# EAGLE library part SLG46828V (library GREENPAK)
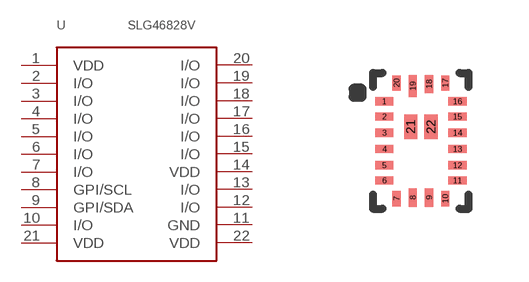
[diagram p62: symbol with the pads of STQFN-20-2.0X3.0-D; footprint STQFN-20-2.0X3.0-D]

Designator prefix -

## SLG46828V  [STQFN-20-2.0X3.0-D]
1  VDD  pwr
2  I/O  in
3  I/O
4  I/O
5  I/O
6  I/O
7  I/O
8  GPI/SCL  in
9  GPI/SDA  in
10  I/O
11  GND  pwr
12  I/O
13  I/O
14  VDD  pwr
15  I/O
16  I/O
17  I/O
18  I/O
19  I/O
20  I/O
21  VDD  out
22  VDD  out

## Footprint STQFN-20-2.0X3.0-D (pad centres in mm)
smd 0.457 x 0.203: 1 -0.917,0.991; 2 -0.917,0.61; 3 -0.917,0.203; 4 -0.917,-0.203; 5 -0.917,-0.61; 6 -0.917,-0.991; 11 0.912,-0.991; 12 0.912,-0.61; 13 0.912,-0.203; 14 0.912,0.203; 15 0.912,0.61; 16 0.912,0.991
smd 0.203 x 0.381: 7 -0.612,-1.448; 10 0.607,-1.448; 17 0.607,1.448; 20 -0.612,1.448
smd 0.203 x 0.457: 8 -0.206,-1.422; 9 0.201,-1.422; 18 0.201,1.422
smd 0.203 x 0.559: 19 -0.206,1.372
smd 0.33 x 0.61: 21 -0.257,0.356; 22 0.251,0.356